# Altium schematic symbol library Symbol.SchLib: 67 symbols
Pins are listed as number, name and electrical type; pins without a type are passive.

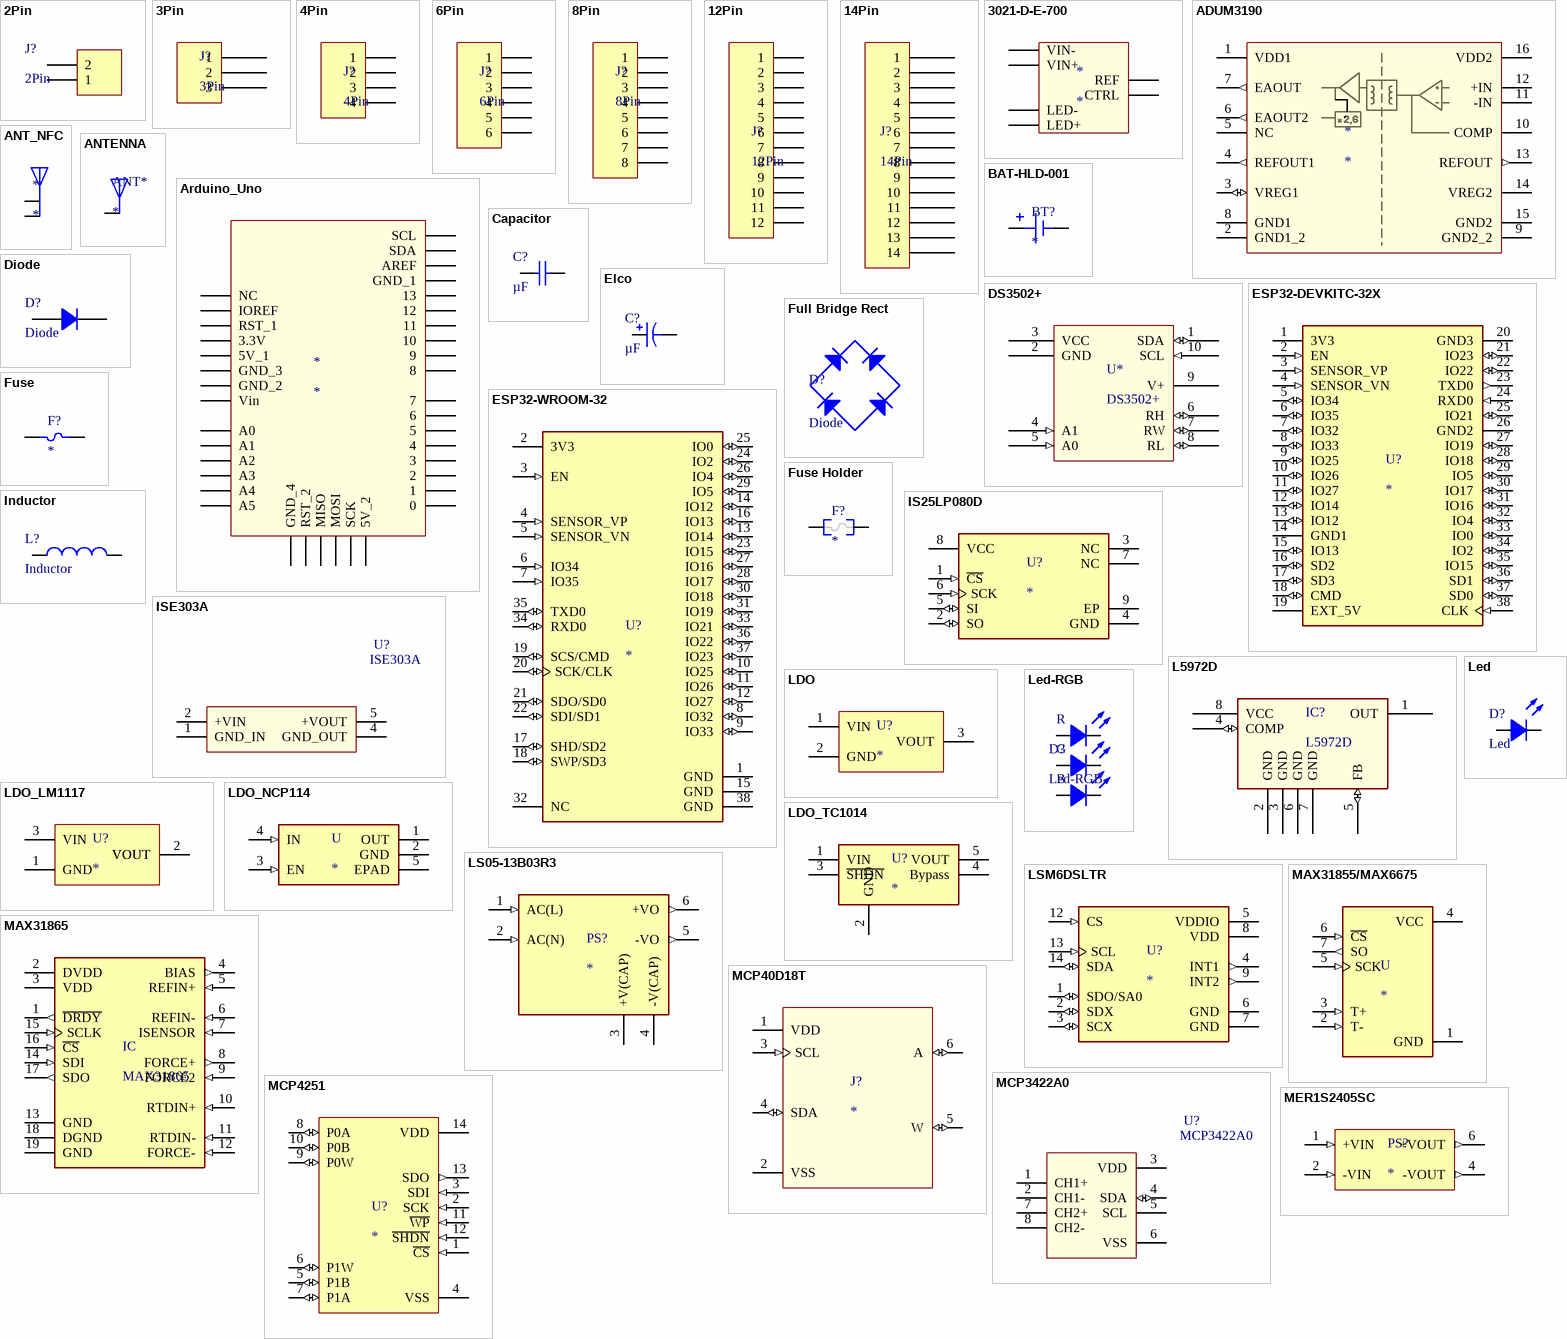
[diagram p0: symbols 2Pin to MER1S2405SC]

## 2Pin
designator J?
footprint WAGO_231-132
footprint WAGO_734-132
footprint PHOENIX_1755516
footprint CTB932VD_2
pins: 1, 2

## 3Pin
designator J?
footprint WAGO_231-133
footprint WAGO_734-133
footprint PHOENIX_1755529
footprint CTB932VD_3
pins: 1, 2, 3

## 4Pin
designator J?
footprint WAGO_734-134
footprint CTB932VD_4
footprint MOLEX_533980471
footprint 4pin_2.54
pins: 1, 2, 3, 4

## 6Pin
designator J?
footprint Pin-6-254
pins: 1, 2, 3, 4, 5, 6

## 8Pin
designator J?
footprint CONN8_T4143012081-000_TEC
footprint 61030821821
pins: 1, 2, 3, 4, 5, 6, 7, 8

## 12Pin
designator J?
footprint PHOENIX_1071009
pins: 1, 2, 3, 4, 5, 6, 7, 8, 9, 10, 11, 12

## 14Pin
designator J?
footprint 14POS_3.5mm
pins: 1, 2, 3, 4, 5, 6, 7, 8, 9, 10, 11, 12, 13, 14

## 3021-D-E-700
designator *
footprint 3021-D-E-700
pins: CTRL, LED+, LED-, REF, VIN+, VIN-

## ADUM3190
designator *
footprint QSOP16
pins: 1 VDD1 (power), 2 GND1_2, 3 VREG1 (io), 4 REFOUT1 (out), 5 NC, 6 EAOUT2 (out), 7 EAOUT (out), 8 GND1, 9 GND2_2, 10 COMP, 11 -IN, 12 +IN, 13 REFOUT (out), 14 VREG2, 15 GND2, 16 VDD2 (power)

## ANT_NFC
designator *
footprint Antenna_NFC
pins: 1 FEEDING, 2 GND

## ANTENNA
designator ANT*
2.4GHz - Chip RF Antenna 2.4GHz ~ 2.5GHz 0.5dBi Solder Surface Mount; MP: 2450AT18B100E; MF: Johanson Technology; Price: None; Package: None; Purchase-URL: https://pricing.snapeda.com/search/part/2450AT18B100E/?ref=eda; Availability: In Stock; SnapEDA_Link: https://www.snapeda.com/parts/2450AT18B100E/Johanson+Technology+Inc./view-part/?ref=snap; Check_prices: https://www.snapeda.com/parts/2450AT18B100E/Johanson+Technology+Inc./view-part/?ref=eda; Value: *
footprint ANT2G4_32_16
pins: 1 FEED

## Arduino_Uno
designator *
footprint Arduino_UNO
pins: 0, 1, 2, 3, 3.3V, 4, 5, 5V_1, 5V_2, 6, 7, 8, 9, 10, 11, 12, 13, A0, A1, A2, A3, A4, A5, AREF, GND_1, GND_2, GND_3, GND_4, IOREF, MISO, MOSI, NC, RST_1, RST_2, SCK, SCL, SDA, Vin

## BAT-HLD-001
designator BT?
Battery Retainer Coin, 20.0mm 1 Cell SMD (SMT) Tab; MP: BAT-HLD-001; Value: *; Package: None; Availability: Unavailable; Price: None
footprint BAT-HLD-001
pins: N1 NEG, P1 POS, P2 POS

## Capacitor
designator C?, comment µF
footprint C0603
footprint C0805
footprint C1206
footprint C1210
footprint C0402
footprint MOV-CAP_S100_D70_T50
footprint CAP_L130_W70_S100
pins: 1, 2

## Diode
designator D?
footprint SOD128
footprint SOD323
pins: 1, 2

## DS3502+
designator U*
footprint USOP10
pins: 1 SDA (io), 2 GND (power), 3 VCC (power), 4 A1 (in), 5 A0 (in), 6 RH (io), 7 RW (io), 8 RL (io), 9 V+ (power), 10 SCL (in)

## Elco
designator C?, comment µF
footprint ELCO_TH_W50_D100_H160
footprint ELCO_TH_W25_D63_H112
footprint ECLO_TH_W50_D80_H110
footprint ELCO_D63_H77 (Aluminum SMD Electrolytic Capacitor, 6.60mm Land Size, 6.30mm Diameter, 7.70mm Height, 8.00mm Maximum Leads Span)
footprint ELCO_D55_H59
pins: 1, 2

## ESP32-DEVKITC-32X
designator U?
EVAL BOARD FOR ESP-WROOM-32; MP: ESP32-DEVKITC-32D; MF: Espressif Systems; Value: *; Price: None; Check_prices: https://www.snapeda.com/parts/ESP32-DEVKITC-32D/Espressif%20Systems/view-part/2777395/?ref=eda; SnapEDA_Link: https://www.snapeda.com/parts/ESP32-DEVKITC-32D/Espressif%20Systems/view-part/2777395/?ref=snap; Availability: Warning; Purchase-URL: https://pricing.snapeda.com/search/part/ESP32-DEVKITC-32D/?ref=eda; Package: None
footprint ESP32-DEVKITC-32D
pins: 1 3V3 (power), 2 EN (in), 3 SENSOR_VP (in), 4 SENSOR_VN (in), 5 IO34 (io), 6 IO35 (io), 7 IO32 (io), 8 IO33 (io), 9 IO25 (io), 10 IO26 (io), 11 IO27 (io), 12 IO14 (io), 13 IO12 (io), 14 GND1 (power), 15 IO13 (io), 16 SD2 (io), 17 SD3 (io), 18 CMD (io), 19 EXT_5V (power), 20 GND3 (power), 21 IO23 (io), 22 IO22 (io), 23 TXD0 (out), 24 RXD0 (in), 25 IO21 (io), 26 GND2 (power), 27 IO19 (io), 28 IO18 (io), 29 IO5 (io), 30 IO17 (io), 31 IO16 (io), 32 IO4 (io), 33 IO0 (io), 34 IO2 (io), 35 IO15 (io), 36 SD1 (io), 37 SD0 (io), 38 CLK (in)

## ESP32-WROOM-32
designator U?
MP: ESP32-WROOM-32; Package: None; Value: *; Price: None; Availability: Unavailable
footprint ESP32-WROOM-32
pins: 1 GND (power), 2 3V3 (power), 3 EN (in), 4 SENSOR_VP (in), 5 SENSOR_VN (in), 6 IO34 (in), 7 IO35 (in), 8 IO32 (io), 9 IO33 (io), 10 IO25 (io), 11 IO26 (io), 12 IO27 (io), 13 IO14 (io), 14 IO12 (io), 15 GND (power), 16 IO13 (io), 17 SHD/SD2 (io), 18 SWP/SD3 (io), 19 SCS/CMD (io), 20 SCK/CLK (io), 21 SDO/SD0 (io), 22 SDI/SD1 (io), 23 IO15 (io), 24 IO2 (io), 25 IO0 (io), 26 IO4 (io), 27 IO16 (io), 28 IO17 (io), 29 IO5 (io), 30 IO18 (io), 31 IO19 (io), 32 NC, 33 IO21 (io), 34 RXD0 (io), 35 TXD0 (io), 36 IO22 (io), 37 IO23 (io), 38 GND (power), 39_1 GND (power) hidden to GND, 39_2 GND (power) hidden to GND, 39_3 GND (power) hidden to GND, 39_4 GND (power) hidden to GND, 39_5 GND (power) hidden to GND, 39_6 GND (power) hidden to GND, 39_7 GND (power) hidden to GND, 39_8 GND (power) hidden to GND, 39_9 GND (power) hidden to GND, 39_10 GND (power) hidden to GND, 39_11 GND (power) hidden to GND, 39_12 GND (power) hidden to GND, 39_13 GND (power) hidden to GND, 39_14 GND (power) hidden to GND, 39_15 GND (power) hidden to GND, 39_16 GND (power) hidden to GND, 39_17 GND (power) hidden to GND, 39_18 GND (power) hidden to GND, 39_19 GND (power) hidden to GND, 39_20 GND (power) hidden to GND, 39_21 GND (power) hidden to GND

## Full Bridge Rect
designator D?, comment Diode
footprint MB6S
pins: 1, 2, 3, 4

## Fuse
designator F?
footprint FUSE_W85_L43_H78
pins: 1, 2

## Fuse Holder
designator F?
footprint Fuse_Holder
footprint FUSE_HOLDER_SMD (0154005.DRTL)
pins: 1, 2

## Inductor
designator L?
footprint L_ ETQP
footprint C0603
footprint BOURNS_SRR0604
footprint COILCRAFT_RFB0807
footprint L1210
pins: 1, 2

## IS25LP080D
designator U?
Supplier 1: LCSC; Supplier Part Number 1: C2837009; Supplier 2: Mouser; Supplier Part Number 2: 870-IS25LP080DJULETR
footprint DFN8_200x300_SEP
pins: 1 ~{CS} (in), 2 SO (io), 3 NC, 4 GND (power), 5 SI (io), 6 SCK (in), 7 NC, 8 VCC (power), 9 EP

## ISE303A
designator U?
Mfr_Name: XP Power; GateName_1: A; SymbolName_1: ISE0512A-H; DeviceName: ISE0512A-H_XPP; LibraryName: 2022-03-09_07-09-29_Library; DeviceSetName: ISE0512A-H; Copyright: Copyright (C) 2022 Ultra Librarian. All rights reserved.; Manufacturer_Part_Number: ISE0512A-H
footprint ISE0303A
pins: 1 GND_IN (power), 2 +VIN (power), 4 GND_OUT, 5 +VOUT (power), 8 NC hidden

## L5972D
designator IC?
footprint SOIC-08
pins: 1 OUT (power), 2 GND (power), 3 GND (power), 4 COMP (io), 5 FB (io), 6 GND (power), 7 GND (power), 8 VCC (power)

## LDO
designator U?
1-A, 10-V, low-dropout voltage regulator 3-TO-252 -40 to 125; MP: LP38690DT-5.0/NOPB; MF: Texas Instruments; Availability: Warning; Package: TO-252-3 Texas Instruments; Value: *; Purchase-URL: https://pricing.snapeda.com/search/part/LP38690DT-5.0/NOPB/?ref=eda; SnapEDA_Link: https://www.snapeda.com/parts/LP38690DT-5.0/NOPB/Texas%20Instruments/view-part/25360/?ref=snap; Price: None
footprint TO-252-3
footprint SOT-223-4
pins: 1 VIN (power), 2 GND, 3 VOUT (power)

## LDO_LM1117
designator U?
LM1117; MP: LP38690DT-5.0/NOPB; MF: Texas Instruments; Availability: Warning; Package: TO-252-3 Texas Instruments; Value: *; Purchase-URL: https://pricing.snapeda.com/search/part/LP38690DT-5.0/NOPB/?ref=eda; SnapEDA_Link: https://www.snapeda.com/parts/LP38690DT-5.0/NOPB/Texas%20Instruments/view-part/25360/?ref=snap; Price: None
footprint SOT-223-4
pins: 1 GND, 2 VOUT (power), 3 VIN (power), 4 VOUT (power)

## LDO_NCP114
designator U
Linear Voltage Regulator IC 1 Output 300mA 4-UDFN _1.0x1.0_; MF: ON Semiconductor; MP: NCP114AMX330TCG; Value: *; Price: None; Package: UDFN-4 ON Semiconductor; SnapEDA_Link: https://www.snapeda.com/parts/NCP114AMX330TCG/ON%20Semiconductor/view-part/1038522/?ref=snap; Availability: Unavailable
footprint UDFN4_100-100_EP
pins: 1 OUT (power), 2 GND (power), 3 EN (in), 4 IN (in), 5 EPAD

## LDO_TC1014
designator U?
1-A, 10-V, low-dropout voltage regulator 3-TO-252 -40 to 125; MP: TC1014-x.xVCT713; MF: Microchip; Package: TO-252-3; Value: *; Purchase-URL: https://pricing.snapeda.com/search/part/LP38690DT-5.0/NOPB/?ref=eda; SnapEDA_Link: https://www.snapeda.com/parts/LP38690DT-5.0/NOPB/Texas%20Instruments/view-part/25360/?ref=snap; Price: None
footprint SOT-23-5
pins: 1 VIN, 2 GND, 3 ~{SHDN}, 4 Bypass, 5 VOUT

## Led
designator D?
footprint LED_0603_G
footprint LED_0603_B
footprint LED_0603_R
pins: 1, 2

## Led-RGB
designator D?
footprint KRTB LFLP71.32
pins: 1, 2, 3, 4, 5, 6
text: R; G; B

## LS05-13B03R3
designator PS?
Open Frame AC DC Converters 1 Uitgang 3.3V - - - 1A 85 ~ 305 VAC, 70 ~ 430 VDC Input; MF: Mornsun America, LLC; MP: LS05-13B03R3; Availability: In Stock; Price: None; Package: CUSTOM-6 MORNSUN; SnapEDA_Link: https://www.snapeda.com/parts/LS05-13B03R3/MORNSUN/view-part/?ref=snap; Purchase-URL: https://pricing.snapeda.com/search/part/LS05-13B03R3/?ref=eda; Check_prices: https://www.snapeda.com/parts/LS05-13B03R3/MORNSUN/view-part/?ref=eda; Value: *
footprint LS05-13B03R3
pins: 1 AC(L) (in), 2 AC(N) (in), 3 +V(CAP), 4 -V(CAP), 5 -VO (out), 6 +VO (out)

## LSM6DSLTR
designator U?
Supplier 1: Farnell; Supplier Part Number 1: 2761748
footprint QFN14_300_250
pins: 1 SDO/SA0 (io), 2 SDX (io), 3 SCX (io), 4 INT1 (out), 5 VDDIO (power), 6 GND (power), 7 GND (power), 8 VDD (power), 9 INT2 (out), 12 CS (in), 13 SCL (in), 14 SDA (io)

## MAX31855/MAX6675
designator U  (mechanical)
IC CONV THERMOCOUPLE-DGTL 8SOIC; MP: MAX31855JASA+; MF: Maxim Integrated; Package: SOIC-8 Maxim; Digi-Key_Part_Number: MAX31855JASA+-ND; SnapEDA_Link: https://www.snapeda.com/parts/MAX31855JASA%2B/Maxim%20Integrated/view-part/256849/?ref=snap; Digi-Key_Purchase_URL: https://www.digikey.com/product-detail/en/maxim-integrated/MAX31855JASA-/MAX31855JASA--ND/2754399?utm_source=snapeda&utm_medium=aggregator&utm_campaign=symbol; Value: *
footprint SOIC-08
pins: 1 GND (power), 2 T- (in), 3 T+ (in), 4 VCC (power), 5 SCK (in), 6 ~{CS} (in), 7 SO (out)

## MAX31865
designator IC
Temp Monitoring System _Sensor_ External Sensor SPI Output 20-SSOP; MP: MAX31865AAP+; MF: Maxim Integrated; Price: None; Value: *; Package: SSOP-20 Maxim; SnapEDA_Link: https://www.snapeda.com/parts/MAX31865AAP%2B/Maxim%20Integrated/view-part/215216/?ref=snap; Availability: Unavailable
footprint SSOP-20
pins: 1 ~{DRDY} (out), 2 DVDD (power), 3 VDD (power), 4 BIAS (out), 5 REFIN+ (in), 6 REFIN- (in), 7 ISENSOR (in), 8 FORCE+ (out), 9 FORCE2 (in), 10 RTDIN+ (in), 11 RTDIN- (in), 12 FORCE- (in), 13 GND (power), 14 SDI (in), 15 SCLK (in), 16 ~{CS} (in), 17 SDO (out), 18 DGND (power), 19 GND (power)

## MCP40D18T
designator J?
MP: MCP40D18T-502E/LT; Package: None; Price: None; Value: *; Availability: Unavailable
footprint SC-70-6
pins: 1 VDD (power), 2 VSS (power), 3 SCL (in), 4 SDA (io), 5 W (io), 6 A (io)

## MCP3422A0
designator U?
Mfr_Name: Microchip; GateName_1: A; SymbolName_1: MCP3422A0-E/SN; DeviceName: SOIC8-N_MC_MCH; LibraryName: 2022-03-08_14-59-21_Library; DeviceSetName: MCP3422A0-E/SN; Copyright: Copyright (C) 2022 Ultra Librarian. All rights reserved.; Manufacturer_Part_Number: MCP3422A0-E/SN
footprint SOIC-08
pins: 1 CH1+, 2 CH1-, 3 VDD (power), 4 SDA (io), 5 SCL, 6 VSS (power), 7 CH2+, 8 CH2-

## MCP4251
designator U?
MP: MCP4251; Package: None; Price: None; Value: *; Availability: Unavailable
footprint SOIC-14
pins: 1 ~{CS} (in), 2 SCK (in), 3 SDI (in), 4 VSS (power), 5 P1B (io), 6 P1W (io), 7 P1A (io), 8 P0A (io), 9 P0W (io), 10 P0B (io), 11 ~{WP} (in), 12 ~{SHDN} (in), 13 SDO (out), 14 VDD (power)

## MER1S2405SC
designator PS?
MER1 Series 1 W 5 Vout 200 mA Isolated Single DC/DC Converter-SIP-7 (4 Leads); MP: MER1S2405SC; MF: Murata Power Solutions; Purchase-URL: https://pricing.snapeda.com/search/part/MER1S2405SC/?ref=eda; Price: None; SnapEDA_Link: https://www.snapeda.com/parts/MER1S2405SC/Murata+Power+Solutions/view-part/?ref=snap; Check_prices: https://www.snapeda.com/parts/MER1S2405SC/Murata+Power+Solutions/view-part/?ref=eda; Package: None; Availability: In Stock; Value: *
footprint MER1S2405SC
pins: 1 +VIN (in), 2 -VIN (in), 4 -VOUT (out), 6 +VOUT (out)

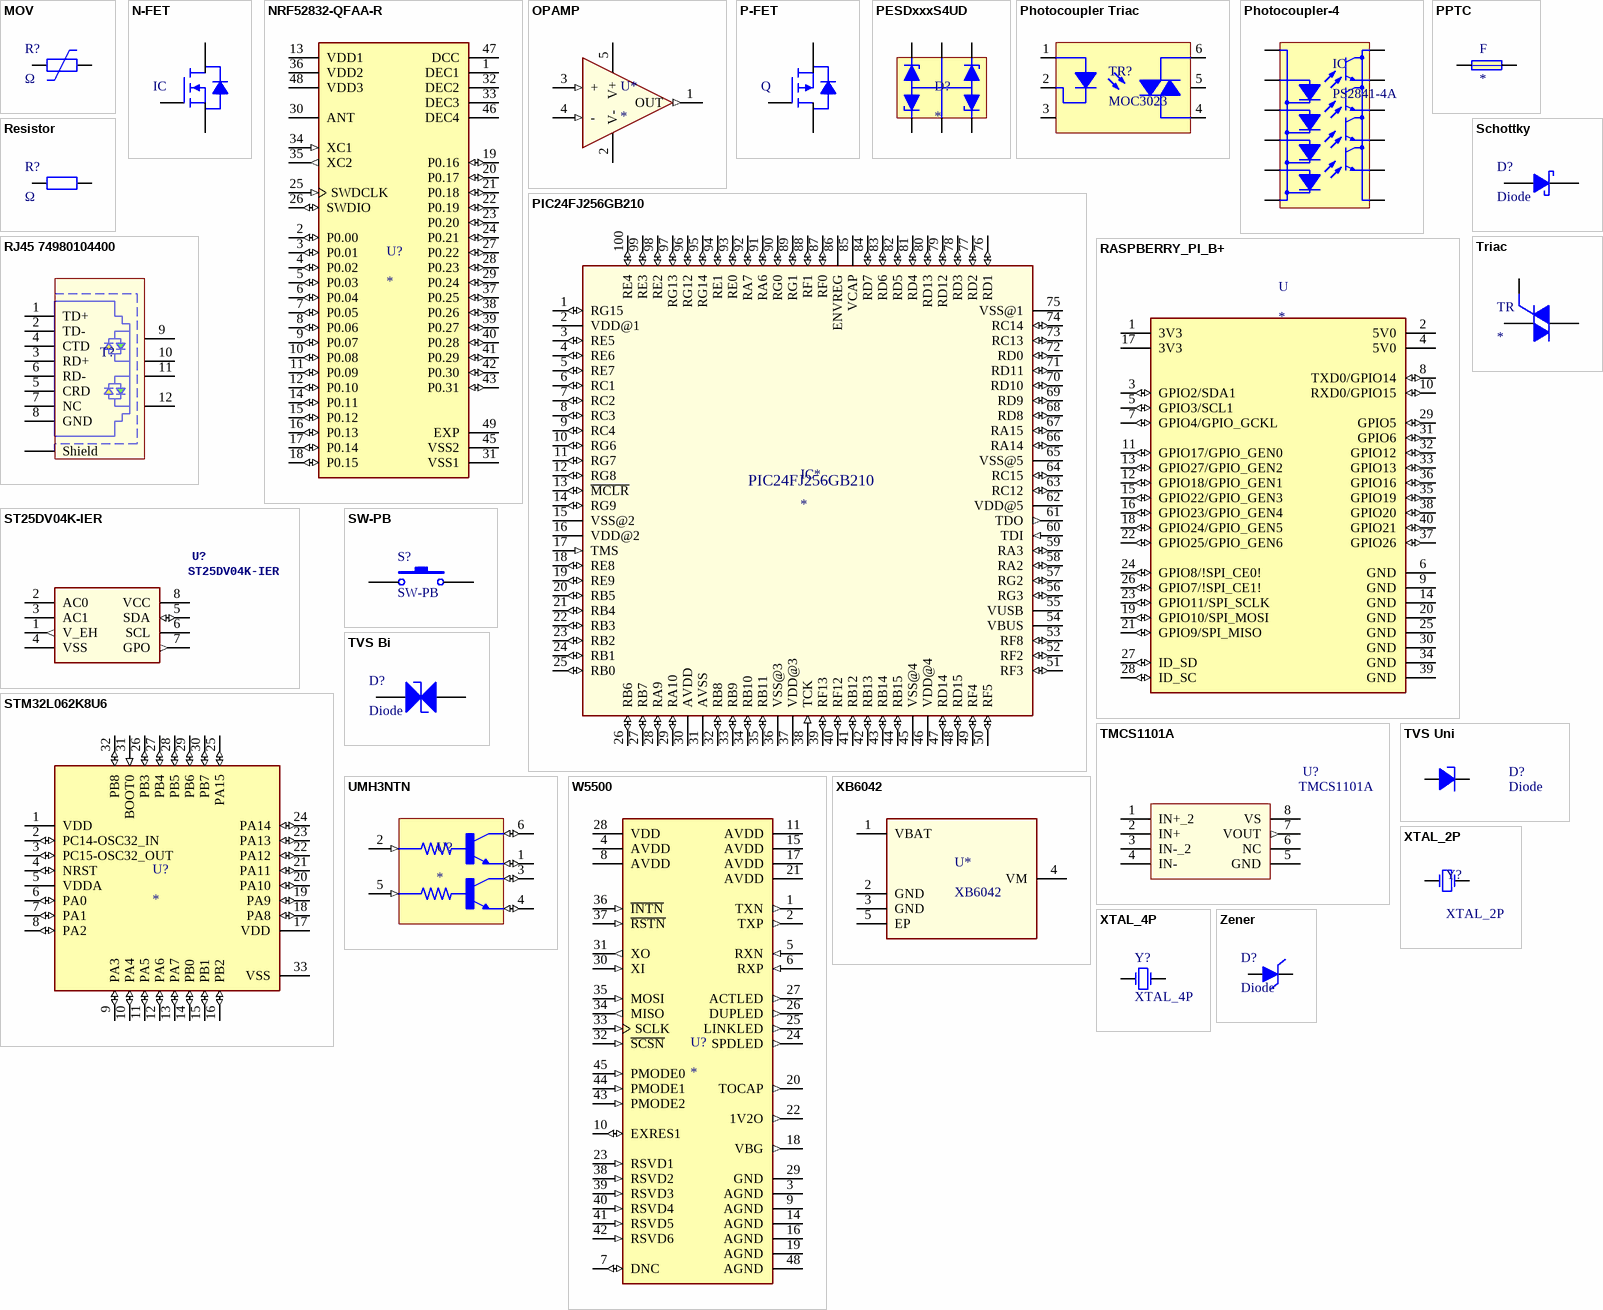
[diagram p1: symbols MOV to Zener]

## MOV
designator R?, comment Ω
footprint MOV_S75_D140_T44
pins: 1, 2

## N-FET
designator IC
footprint SOT-23-3
footprint SOT323
pins: 1 G, 2 S, 3 D

## NRF52832-QFAA-R
designator U?
Supplier 1: Farnell; Supplier Part Number 1: 3596261; Supplier 2: LCSC; Supplier Part Number 2: C77540
footprint QFN48
pins: 1 DEC1 (power), 2 P0.00 (io), 3 P0.01 (io), 4 P0.02 (io), 5 P0.03 (io), 6 P0.04 (io), 7 P0.05 (io), 8 P0.06 (io), 9 P0.07 (io), 10 P0.08 (io), 11 P0.09 (io), 12 P0.10 (io), 13 VDD1 (power), 14 P0.11 (io), 15 P0.12 (io), 16 P0.13 (io), 17 P0.14 (io), 18 P0.15 (io), 19 P0.16 (io), 20 P0.17 (io), 21 P0.18 (io), 22 P0.19 (io), 23 P0.20 (io), 24 P0.21 (io), 25 SWDCLK (in), 26 SWDIO (io), 27 P0.22 (io), 28 P0.23 (io), 29 P0.24 (io), 30 ANT, 31 VSS1 (power), 32 DEC2 (power), 33 DEC3 (power), 34 XC1 (in), 35 XC2 (out), 36 VDD2 (power), 37 P0.25 (io), 38 P0.26 (io), 39 P0.27 (io), 40 P0.28 (io), 41 P0.29 (io), 42 P0.30 (io), 43 P0.31 (io), 45 VSS2 (power), 46 DEC4 (power), 47 DCC (power), 48 VDD3 (power), 49 EXP (power)

## OPAMP
designator U*
General Purpose Amplifier 1 Circuit SOT-23-5; MF: STMicroelectronics; MP: TS321AILT; Price: None; Mouser-Purchase-URL: https://snapeda.com/shop?store=Mouser&id=485227; Package: SOT-23-5 STMicroelectronics; DigiKey-Purchase-URL: https://snapeda.com/shop?store=DigiKey&id=485227; Availability: Good; Value: *; Arrow_Electronics-Purchase-URL: https://snapeda.com/shop?store=Arrow+Electronics&id=485227; SnapEDA_Link: https://www.snapeda.com/parts/TS321AILT/STMicroelectronics/view-part/485227/?ref=snap
footprint SOT-23-5
pins: 1 OUT (out), 2 V- (power), 3 + (in), 4 - (in), 5 V+ (power)

## P-FET
designator Q
footprint SOT-23-3
footprint SOT-23-3
pins: 1 G, 2 S, 3 D

## PESDxxxS4UD
designator D?
MF: NXP Semiconductors; MP: PESD24VS4UD; Check_prices: https://www.snapeda.com/parts/PESD24VS4UD/NXP+Semiconductors/view-part/?ref=eda; Value: *; Price: None; Availability: In Stock; SnapEDA_Link: https://www.snapeda.com/parts/PESD24VS4UD/NXP+Semiconductors/view-part/?ref=snap; Package: SOT-457 Nexperia USA; Purchase-URL: https://pricing.snapeda.com/search/part/PESD24VS4UD/?ref=eda
footprint TSOP6-6
pins: 1 K1, 2 CA, 3 K2, 4 K3, 5 CA, 6 K4

## Photocoupler Triac
designator TR?, comment MOC3023
footprint SMD-6
footprint SMD-6W
pins: 1, 2, 3, 4, 5, 6

## Photocoupler-4
designator IC, comment PS2841-4A
footprint SSOP-12
pins: 1, 2, 3, 4, 5, 6, 7, 8, 9, 10, 11, 12

## PIC24FJ256GB210
designator IC*
footprint TQFP-100
pins: 1 RG15 (io), 2 VDD@1 (power), 3 RE5 (io), 4 RE6 (io), 5 RE7 (io), 6 RC1 (io), 7 RC2 (io), 8 RC3 (io), 9 RC4 (io), 10 RG6 (io), 11 RG7 (io), 12 RG8 (io), 13 ~{MCLR} (io), 14 RG9 (io), 15 VSS@2 (power), 16 VDD@2 (power), 17 TMS (in), 18 RE8 (io), 19 RE9 (io), 20 RB5 (io), 21 RB4 (io), 22 RB3 (io), 23 RB2 (io), 24 RB1 (io), 25 RB0 (io), 26 RB6 (io), 27 RB7 (io), 28 RA9 (io), 29 RA10 (io), 30 AVDD (power), 31 AVSS (power), 32 RB8 (io), 33 RB9 (io), 34 RB10 (io), 35 RB11 (io), 36 VSS@3 (power), 37 VDD@3 (power), 38 TCK (in), 39 RF13 (io), 40 RF12 (io), 41 RB12 (io), 42 RB13 (io), 43 RB14 (io), 44 RB15 (io), 45 VSS@4 (power), 46 VDD@4 (power), 47 RD14 (io), 48 RD15 (io), 49 RF4 (io), 50 RF5 (io), 51 RF3 (io), 52 RF2 (io), 53 RF8 (io), 54 VBUS, 55 VUSB, 56 RG3 (io), 57 RG2 (io), 58 RA2 (io), 59 RA3 (io), 60 TDI (in), 61 TDO (out), 62 VDD@5 (power), 63 RC12 (io), 64 RC15 (io), 65 VSS@5 (power), 66 RA14 (io), 67 RA15 (io), 68 RD8 (io), 69 RD9 (io), 70 RD10 (io), 71 RD11 (io), 72 RD0 (io), 73 RC13 (io), 74 RC14 (io), 75 VSS@1 (power), 76 RD1 (io), 77 RD2 (io), 78 RD3 (io), 79 RD12 (io), 80 RD13 (io), 81 RD4 (io), 82 RD5 (io), 83 RD6 (io), 84 RD7 (io), 85 VCAP (power), 86 ENVREG, 87 RF0 (io), 88 RF1 (io), 89 RG1 (io), 90 RG0 (io), 91 RA6 (io), 92 RA7 (io), 93 RE0 (io), 94 RE1 (io), 95 RG14 (io), 96 RG12 (io), 97 RG13 (io), 98 RE2 (io), 99 RE3 (io), 100 RE4 (io)
4 alternate drawings of the same symbol

## PPTC
designator F
Polymeric PTC Resettable Fuse 24V 500mA Ih Surface Mount 1812 _4532 Metric_, Concave; MP: MINISMDC050F-2; MF: Littelfuse Inc.; SnapEDA_Link: https://www.snapeda.com/parts/MINISMDC050F-2/Littelfuse%20Inc./view-part/9620/?ref=snap; Package: 1812 TE Connectivity / Raychem; Digi-Key_Purchase_URL: https://www.digikey.com/product-detail/en/littelfuse-inc/MINISMDC050F-2/MINISMDC050F-2CT-ND/1045862?utm_source=snapeda&utm_medium=aggregator&utm_campaign=symbol; Digi-Key_Part_Number: MINISMDC050F-2CT-ND; Value: *
footprint PPTC1812
footprint PPTC2920
footprint PPTC1206
pins: 1, 2

## RASPBERRY_PI_B+
designator U
BCM2835 Raspberry Pi Model B+ - ARM11, VideoCore MPU Embedded Evaluation Board; MP: RASPBERRY PI B+; Price: None; Value: *; MF: Raspberry Pi; Package: None; SnapEDA_Link: https://www.snapeda.com/parts/RASPBERRY%20PI%20B+/Raspberry%20Pi/view-part/559759/?ref=snap; Availability: Unavailable
footprint Pi_Shield
pins: 1 3V3 (power), 2 5V0 (power), 3 GPIO2/SDA1 (io), 4 5V0 (power), 5 GPIO3/SCL1 (io), 6 GND (power), 7 GPIO4/GPIO_GCKL (io), 8 TXD0/GPIO14 (io), 9 GND (power), 10 RXD0/GPIO15 (io), 11 GPIO17/GPIO_GEN0 (io), 12 GPIO18/GPIO_GEN1 (io), 13 GPIO27/GPIO_GEN2 (io), 14 GND (power), 15 GPIO22/GPIO_GEN3 (io), 16 GPIO23/GPIO_GEN4 (io), 17 3V3 (power), 18 GPIO24/GPIO_GEN5 (io), 19 GPIO10/SPI_MOSI (io), 20 GND (power), 21 GPIO9/SPI_MISO (io), 22 GPIO25/GPIO_GEN6 (io), 23 GPIO11/SPI_SCLK (io), 24 GPIO8/!SPI_CE0! (io), 25 GND (power), 26 GPIO7/!SPI_CE1! (io), 27 ID_SD (io), 28 ID_SC (io), 29 GPIO5 (io), 30 GND (power), 31 GPIO6 (io), 32 GPIO12 (io), 33 GPIO13 (io), 34 GND (power), 35 GPIO19 (io), 36 GPIO16 (io), 37 GPIO26 (io), 38 GPIO20 (io), 39 GND (power), 40 GPIO21 (io)

## Resistor
designator R?, comment Ω
footprint R0603
footprint R0805
footprint R1206
footprint R1210
footprint R2512
footprint R0402
pins: 1, 2

## RJ45 74980104400
designator T?  (value not drawn)  (graphical)
WE-RJ45 LAN Through Hole Reflow, 1 Port, 10/100 Base-T, Tab Up; Manufacturer: Wurth Elektronik; LED: green/yellow-green/yellow; Number of Ports: 1; PoE: non-PoE; Shield Tabs: No; USB: No USB; Manufacturer Part Number: 74980104400; Category: Filtered Connectors; Match Code: WE-RJ45 LAN; ComponentLink1Description: Website Link; ComponentLink1URL: https://www.we-online.com/redexpert/article/74980104400?ad; ComponentLink2Description: Datasheet Link; ComponentLink2URL: https://www.we-online.com/redexpert/spec/74980104400?ad; Mount: Through Hole Reflow; Operating Temperature Max: 85°C; Operating Temperature Min: -40°C; Packaging: Tape and Reel; Length: 21.5mm; Width: 16mm; Height: 13.6mm; Data Rate: 10/100 Base-T; Tab: Up
footprint 74980104400
pins: 1 TD+, 2 TD-, 3 RD+, 4 CTD, 5 CRD, 6 RD-, 7 NC, 8 GND, 9, 10, 11, 12, Shell Shield

## Schottky
designator D?, comment Diode
footprint SOD128
pins: 1, 2

## ST25DV04K-IER
designator U?
Mfr_Name: STMicroelectronics; GateName_1: A; SymbolName_1: ST25DV04K-IER6C3; DeviceName: UFDFPN8_STM; LibraryName: 2022-09-20_15-33-38_Library; DeviceSetName: ST25DV04K-IER6C3; Copyright: Copyright (C) 2022 Ultra Librarian. All rights reserved.; Manufacturer_Part_Number: ST25DV04K-IER6C3
footprint UFDFN-8
footprint UFDFN-8_EP
pins: 1 V_EH (out), 2 AC0, 3 AC1, 4 VSS (power), 5 SDA (io), 6 SCL, 7 GPO (out), 8 VCC (power)

## STM32L062K8U6
designator U?
ARMÂ® CortexÂ®-M0+ STM32L0 Microcontroller IC 32-Bit 32MHz 64KB (64K x 8) FLASH 32-UFQFPN (5x5); MP: STM32L062K8U6; MF: STMicroelectronics; Price: None; SnapEDA_Link: https://www.snapeda.com/parts/STM32L062K8U6/STMicroelectronics/view-part/876278/?ref=snap; Purchase-URL: https://pricing.snapeda.com/search/part/STM32L062K8U6/?ref=eda; Availability: In Stock; Check_prices: https://www.snapeda.com/parts/STM32L062K8U6/STMicroelectronics/view-part/876278/?ref=eda; Value: *; Package: UFQFN-32 STMicroelectronics
footprint QFN32_5x5
pins: 1 VDD (power), 2 PC14-OSC32_IN (io), 3 PC15-OSC32_OUT (io), 4 NRST (io), 5 VDDA (power), 6 PA0 (io), 7 PA1 (io), 8 PA2 (io), 9 PA3 (io), 10 PA4 (io), 11 PA5 (io), 12 PA6 (io), 13 PA7 (io), 14 PB0 (io), 15 PB1 (io), 16 PB2 (io), 17 VDD (power), 18 PA8 (io), 19 PA9 (io), 20 PA10 (io), 21 PA11 (io), 22 PA12 (io), 23 PA13 (io), 24 PA14 (io), 25 PA15 (io), 26 PB3 (io), 27 PB4 (io), 28 PB5 (io), 29 PB6 (io), 30 PB7 (io), 31 BOOT0 (in), 32 PB8 (io), 33 VSS (power)

## SW-PB
designator S?
Switch; Published: 24-Mar-1999; LatestRevisionDate: 17-Jul-2002; LatestRevisionNote: Re-released for DXP Platform.; PackageReference: SPST-2; Publisher: Altium Limited; PackageDescription: Switch; 2 Leads
footprint PTS810SJG250SMTRLFS
pins: 1, 2, 3, 4

## TMCS1101A
designator U?
Mfr_Name: Texas Instruments; GateName_1: A; SymbolName_1: TMCS1101A1UQDR; DeviceName: SOIC8_D_TEX; LibraryName: 2022-03-08_15-51-52_Library; DeviceSetName: TMCS1101A1UQDR; Copyright: Copyright (C) 2022 Ultra Librarian. All rights reserved.; Manufacturer_Part_Number: TMCS1101A1UQDR
footprint SOIC-08
pins: 1 IN+_2, 2 IN+, 3 IN-_2, 4 IN-, 5 GND, 6 NC, 7 VOUT (out), 8 VS (power)

## Triac
designator TR
footprint DPAK
footprint D2PAK
pins: 1, 2, 3

## TVS Bi
designator D?, comment Diode
footprint SOD128
pins: 1, 2

## TVS Uni
designator D?, comment Diode
footprint SOD128
footprint SMB
footprint SOD123
pins: 1, 2

## UMH3NTN
designator U?
Pre-Biased Bipolar Transistor (BJT) 2 NPN - Pre-Biased (Dual) 50V 100mA 250MHz 150mW Surface Mount UMT6; MF: Rohm; MP: UMH3NTN; Check_prices: https://www.snapeda.com/parts/UMH3NTN/Rohm/view-part/?ref=eda; Availability: In Stock; Price: None; SnapEDA_Link: https://www.snapeda.com/parts/UMH3NTN/Rohm/view-part/?ref=snap; Package: SOT-363 Rohm; Value: *; Purchase-URL: https://pricing.snapeda.com/search/part/UMH3NTN/?ref=eda
footprint SOT363
pins: 1 E1 (io), 2 B1 (in), 3 C2 (io), 4 E2 (io), 5 B2 (in), 6 C1 (io)

## W5500
designator U?
Ethernet Controller 10/100 Base-T/TX PHY SPI Interface 48-LQFP (7x7); MF: WIZnet; MP: W5500; Value: *; Package: None; Check_prices: https://www.snapeda.com/parts/W5500/WIZnet/view-part/?ref=eda; Price: None; Availability: In Stock; SnapEDA_Link: https://www.snapeda.com/parts/W5500/WIZnet/view-part/?ref=snap; Purchase-URL: https://pricing.snapeda.com/search/part/W5500/?ref=eda
footprint LQFP-48
pins: 1 TXN (out), 2 TXP (out), 3 AGND (power), 4 AVDD (power), 5 RXN (in), 6 RXP (in), 7 DNC (io), 8 AVDD (power), 9 AGND (power), 10 EXRES1 (io), 11 AVDD (power), 14 AGND (power), 15 AVDD (power), 16 AGND (power), 17 AVDD (power), 18 VBG (out), 19 AGND (power), 20 TOCAP (out), 21 AVDD (power), 22 1V2O (out), 23 RSVD1 (in), 24 SPDLED (out), 25 LINKLED (out), 26 DUPLED (out), 27 ACTLED (out), 28 VDD (power), 29 GND, 30 XI (in), 31 XO (out), 32 ~{SCSN} (in), 33 SCLK (in), 34 MISO (out), 35 MOSI (in), 36 ~{INTN} (in), 37 ~{RSTN} (in), 38 RSVD2 (in), 39 RSVD3 (in), 40 RSVD4 (in), 41 RSVD5 (in), 42 RSVD6 (in), 43 PMODE2 (in), 44 PMODE1 (in), 45 PMODE0 (in), 48 AGND (power)

## XB6042
designator U*
Battery management IC
footprint UDFN4_100-100_EP
pins: 1 VBAT, 2 GND, 3 GND, 4 VM, 5 EP

## XTAL_2P
designator Y?
Crystal Oscillator; Published: 8-Jun-2000; LatestRevisionDate: 17-Jul-2002; LatestRevisionNote: Re-released for DXP Platform.; PackageReference: R38; Publisher: Altium Limited; PackageDescription: Crystal, Thru-Hole; 2 Leads; Body 3.1 x 8.2 mm (Dia.xH)
footprint XTAL_32_15_2P
pins: 1 OSC1, 2 OSC2

## XTAL_4P
designator Y?
Crystal Oscillator; Published: 8-Jun-2000; LatestRevisionDate: 17-Jul-2002; LatestRevisionNote: Re-released for DXP Platform.; PackageReference: R38; Publisher: Altium Limited; PackageDescription: Crystal, Thru-Hole; 2 Leads; Body 3.1 x 8.2 mm (Dia.xH)
footprint XTAL_32_25_4P
pins: 1 OSC1, 2 hidden to GND, 3 OSC2, 4 hidden to GND

## Zener
designator D?, comment Diode
footprint SOD128
pins: 1, 2